# Altium footprint library ESCLib1.PcbLib: 34 footprints (part 1 of 3)
Each footprint in its own frame and in the unit in brackets; x right, y up, seen from the top. Pads: shape width x height; smd on the part's side, far side on the other; paste and mask are expansions set on the pad; w line width, h text height; cw(c..) or ccw(c..) is an arc to the next point about the centre after c.
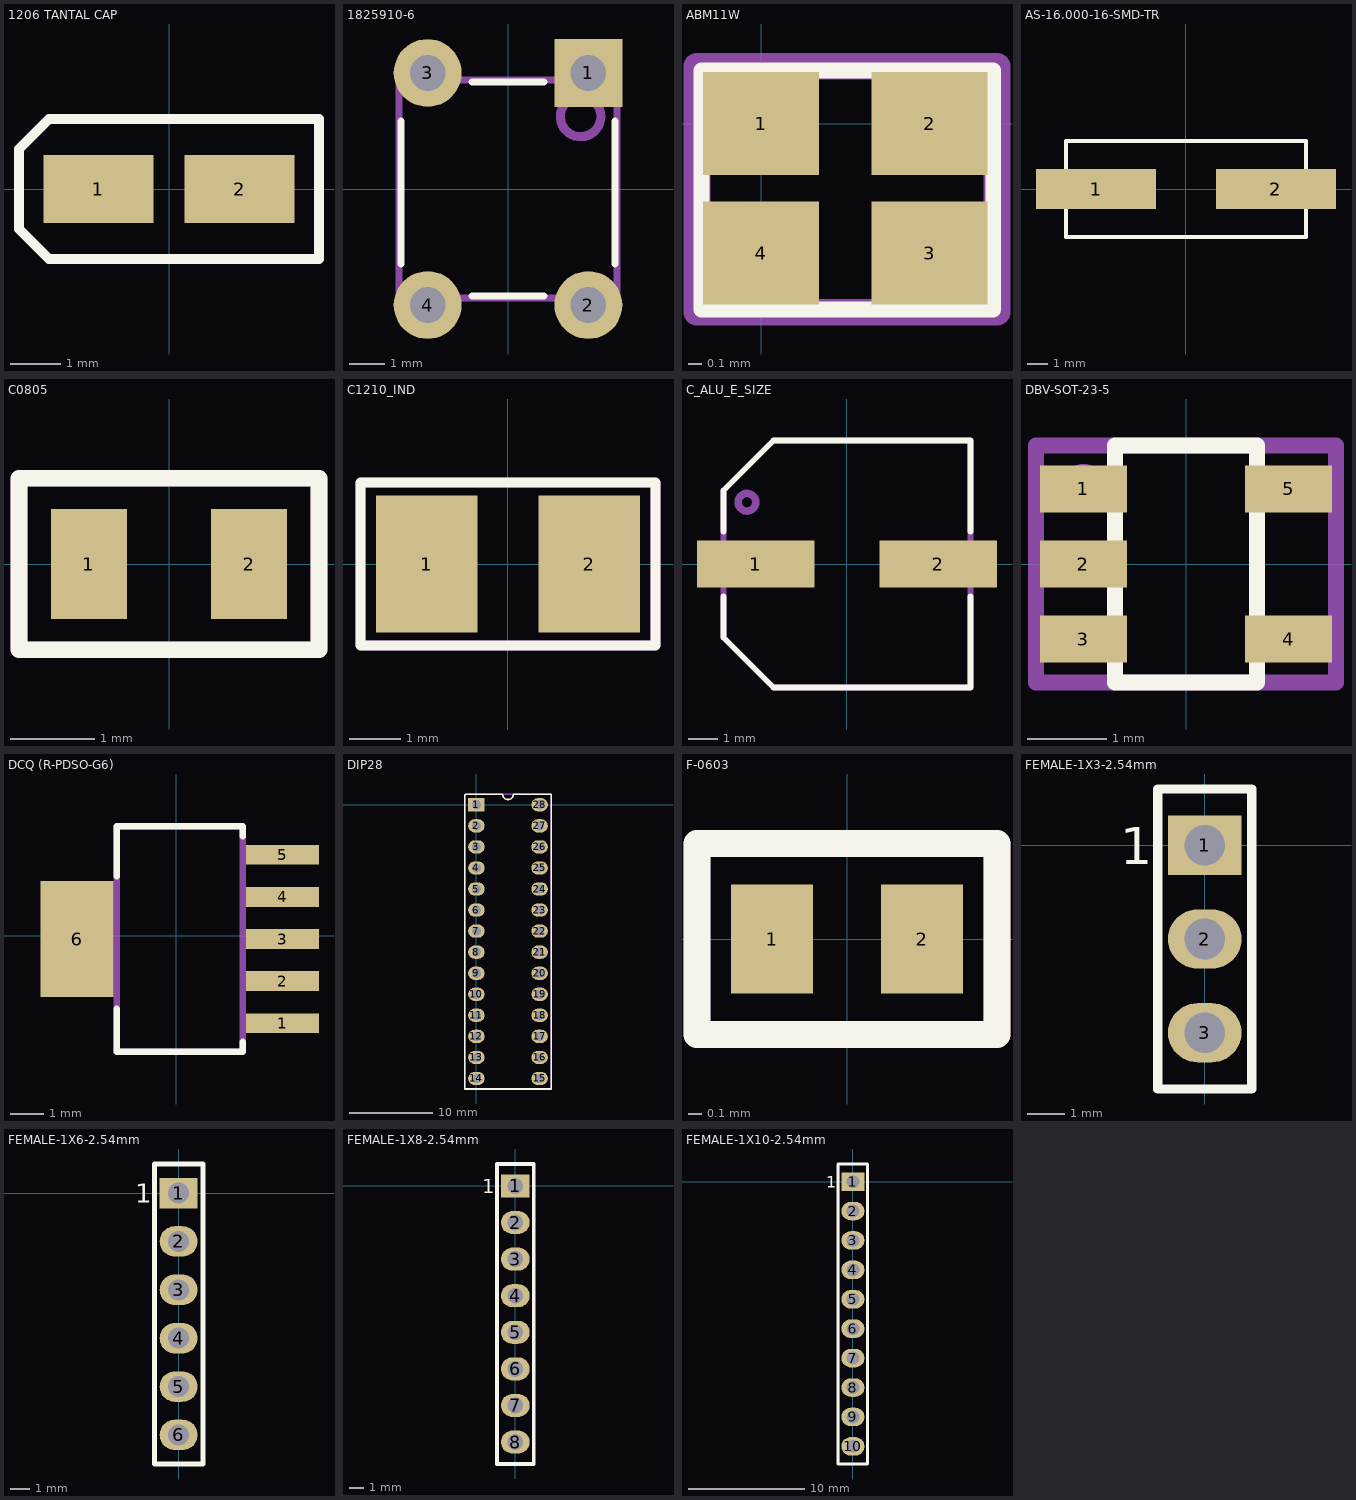
[diagram p0: the footprints below, top view; thin cyan lines are the x and y axes]

## 28_DIP_7.62mm_SOCKET [mm]
3D body "DIP28-SOCKET.stp": height 4.2, standoff -3.17, extent -1.316,-34.357 8.784,1.143

## 1206 TANTAL CAP [mm]
pads (2):
  rect 2.2x1.35 smd: 1(-1.41,0) 2(1.41,0)
Top Overlay:
  lines w0.2: -3,-0.8 -2.4,-1.4 ; -3,-0.8 -3,0.8 ; -3,-0.8 -2.4,-1.4 ; -3,0.8 -2.4,1.4 ; -3,0.8 -2.4,1.4 ; -2.4,-1.4 3,-1.4 3,1.4 -2.4,1.4
Assembly Notes:
  lines w0.2: -3,-0.8 -3,0.8 -2.4,1.4 3,1.4 3,-1.4 -2.3,-1.4 -2.4,-1.4 -3,-0.8
  text "'.Designator'" at -2.6,-0.267 h1
3D body "2012 TANTAL KEMET.step": height 1.82, standoff 0.01, extent -1.7,-0.9 1.7,0.9

## 1825910-6 [mm]
pads (4):
  rect 1.9x1.9 hole 1: 1(2.25,3.25)
  round 1.9 hole 1: 2(2.25,-3.25) 3(-2.25,3.25) 4(-2.25,-3.25)
Top Overlay:
  lines w0.2: -3,-2.1 -3,1.9 ; -1,-3 1,-3 ; -1,3 1,3 ; 3,-2.1 3,1.9
Assembly Notes:
  circle w0.254: c2.032,2.032 r0.568
  lines w0.2: -3.048,-3.048 3.048,-3.048 3.048,3.048 -3.048,3.048 -3.048,-3.048
3D body "RESET_BUTTON.STEP": height 5, standoff -3.51, extent -2.995,-3.9 2.995,3.899

## ABM11W [mm]
pads (4):
  rect 0.875x0.775 smd mask+0.02: 1(0,0) 2(1.27,0) 3(1.27,-0.975) 4(0,-0.975)
Top Overlay:
  lines w0.12: -0.45,-1.4 -0.45,0.4 1.75,0.4 1.75,-1.4 -0.45,-1.4
Assembly Notes:
  circle w0.254: c0,0 r0.18
  lines w0.2: -0.483,-1.422 -0.483,0.432 1.778,0.432 1.778,-1.422 -0.483,-1.422
  text "'.Designator'" at -0.203,-0.988 h1
3D body "ABM11W.STEP": height 0.55, standoff 0.05, extent -0.381,-1.308 1.619,0.292

## AS-16.000-16-SMD-TR [mm]
pads (2):
  rect 6x2 smd: 1(-4.5,0) 2(4.5,0)
Top Overlay:
  lines w0.2: -6,-2.4 -6,2.4 6,2.4 6,-2.4 -6,-2.4
Assembly Notes:
  lines w0.2: -6,-2.4 -6,2.4 6,2.4 6,-2.4 -6,-2.4
  text "'.Designator'" at -5.7,-0.267 h1
3D body "HC-49S.step": height 4.3, standoff 0, extent -6.4,-2.415 6.4,2.415

## C0805 [mm]
pads (2):
  rect 0.9x1.3 smd: 1(-0.95,0) 2(0.95,0)
Top Overlay:
  lines w0.2: -1.778,-1.016 -1.778,1.016 1.778,1.016 1.778,-1.016 -1.778,-1.016
Assembly Notes:
  lines w0.2: -1.778,-1.016 -1.778,1.016 1.778,1.016 1.778,-1.016 -1.778,-1.016
  text "'.Designator'" at -1.524,-0.429 h1
3D body "C0805A.STEP": height 0.7, standoff 0.1, extent -1,-0.625 1,0.625

## C1210_IND [mm]
pads (2):
  rect 2x2.7 smd: 1(-1.6,0) 2(1.6,0)
Top Overlay:
  lines w0.2: -2.9,-1.6 -2.9,1.6 2.9,1.6 2.9,-1.6 -2.9,-1.6
Assembly Notes:
  lines w0.2: -2.9,-1.6 -2.9,1.6 2.9,1.6 2.9,-1.6 -2.9,-1.6
  text "'.Designator'" at -0.38,-0.013 h0.5
3D body: height 2.7, standoff 0, extent -1.675,-1.26 -0.975,1.25
3D body: height 2.7, standoff 0, extent 0.825,-1.242 1.525,1.267
3D body: height 2.6, standoff 0.1, extent -0.975,-1.2 0.825,1.225

## C_ALU_E_SIZE [mm]
pads (2):
  rect 4x1.6 smd: 1(-3.1,0) 2(3.1,0)
Top Overlay:
  lines w0.2: -4.2,-1.1 -4.2,-2.5 -2.5,-4.2 4.2,-4.2 4.2,-1.1 ; -4.2,1.1 -4.2,2.5 -2.5,4.2 4.2,4.2 4.2,1.1
Assembly Notes:
  circle w0.254: c-3.4,2.1 r0.3
  lines w0.2: -4.2,-2.5 -4.2,2.5 -2.5,4.2 4.2,4.2 4.2,-4.2 -2.5,-4.2 -4.2,-2.5
  text "'.Designator'" at -0.58,-0.113 h0.8
3D body "C_ALU_E_SIZE.step": height 6.22, standoff 0.01, extent -4.5,-4.15 4.5,4.15

## DBV-SOT-23-5 [mm]
pads (5):
  rect 1.1x0.6 smd: 1(-1.3,0.95) 2(-1.3,0) 3(-1.3,-0.95) 4(1.3,-0.95) 5(1.3,0.95)
Top Overlay:
  lines w0.2: -0.9,-1.5 0.9,-1.5 0.9,1.5 -0.9,1.5 -0.9,-1.5
Assembly Notes:
  circle w0.254: c-1.3,1 r0.141
  lines w0.2: -1.9,-1.5 -1.9,1.5 1.9,1.5 1.9,-1.5 -1.9,-1.5
  text "'.Designator'" at -1.346,-0.413 h1
3D body "DBV-SOT23.STEP": height 1.45, standoff 0, extent -1.4,-1.45 1.4,1.45

## DCQ (R-PDSO-G6) [mm]
pads (6):
  rect 2.2x0.6 smd: 1(3.2,-2.64) 2(3.2,-1.37) 3(3.2,-0.1) 4(3.2,1.17) 5(3.2,2.44)
  rect 2.2x3.5 smd: 6(-3,-0.1)
Top Overlay:
  lines w0.2: -1.8,-2.2 -1.8,-3.5 2,-3.5 2,-3.2 ; -1.8,1.8 -1.8,3.3 2,3.3 2,3
Assembly Notes:
  lines w0.2: -1.8,-3.5 2,-3.5 2,3.3 -1.8,3.3 -1.8,-3.5
  text "'.Designator'" at -0.019,0.273 h0.76
3D body "3V3_LDO_TI.STEP": height 1.8, standoff 0, extent -3.43,-3.35 3.63,3.15

## DIP28 [mm]
pads (28):
  rect 2x1.6 hole 1.1: 1(0,0)
  oval 2x1.6 hole 1.1: 2(0,-2.54) 3(0,-5.08) 4(0,-7.62) 5(0,-10.16) 6(0,-12.7) 7(0,-15.24) 8(0,-17.78) 9(0,-20.32) 10(0,-22.86) 11(0,-25.4) 12(0,-27.94) 13(0,-30.48) 14(0,-33.02) 15(7.62,-33.02) 16(7.62,-30.48) 17(7.62,-27.94) 18(7.62,-25.4) 19(7.62,-22.86) 20(7.62,-20.32) 21(7.62,-17.78) 22(7.62,-15.24) 23(7.62,-12.7) 24(7.62,-10.16) 25(7.62,-7.62) 26(7.62,-5.08) 27(7.62,-2.54) 28(7.62,0)
Top Overlay:
  lines w0.2: -1.397,-34.29 9.017,-34.29 9.017,1.27 4.445,1.27 cw(c3.81,1.27) 3.175,1.27 -1.27,1.27 -1.397,1.143 -1.397,-34.29
Assembly Notes:
  circle w0.254: c0,0 r0.381
  lines w0.2: -1.397,-34.29 9.017,-34.29 9.017,1.27 -1.27,1.27 -1.397,1.143 -1.397,-34.29
  text "'.Designator'" at 4.112,-17.907 h1
3D body "ATMEGA328-PU-DIP28.STEP": height 8.07, standoff 0.07, extent -0.14,-33.718 7.76,0.953

## F-0603 [mm]
pads (2):
  rect 0.6x0.8 smd: 1(-0.55,0) 2(0.55,0)
Top Overlay:
  lines w0.2: -1.1,-0.7 -1.1,0.7 1.1,0.7 1.1,-0.7 -1.1,-0.7
Assembly Notes:
  lines w0.2: -1.1,-0.7 -1.1,0.7 1.1,0.7 1.1,-0.7 -1.1,-0.7
  text "'.Designator'" at -0.95,-0.317 h0.7
3D body "R0603.step": height 0.46, standoff 0.01, extent -0.8,-0.4 0.8,0.4

## FEMALE-1X3-2.54mm [mm]
pads (3):
  rect 2x1.6 hole 1.1: 1(0,0)
  oval 2x1.6 hole 1.1: 2(0,-2.54) 3(0,-5.08)
Top Overlay:
  lines w0.254: -1.27,-6.604 1.27,-6.604 1.27,1.524 -1.27,1.524 -1.27,-6.604
  text "1" at -2.286,-0.508 h1
Assembly Notes:
  circle w0.254: c0,0 r0.508
  lines w0.2: -1.27,-6.604 1.27,-6.604 1.27,1.524 -1.27,1.524 -1.27,-6.604
  text "'.Designator'" at 0.429,-3.302 h1
3D body "HDR_1x3_2.54MM.STEP": height 9.21, standoff -3.49, extent -1.27,-6.35 1.27,1.27

## FEMALE-1X6-2.54mm [mm]
pads (6):
  rect 2x1.6 hole 1.1: 1(0,0)
  oval 2x1.6 hole 1.1: 2(0,-2.54) 3(0,-5.08) 4(0,-7.62) 5(0,-10.16) 6(0,-12.7)
Top Overlay:
  lines w0.254: -1.27,-14.224 1.27,-14.224 1.27,1.524 -1.27,1.524 -1.27,-14.224
  text "1" at -2.286,-0.508 h1
Assembly Notes:
  circle w0.254: c0,0 r0.508
  lines w0.2: -1.27,-14.224 1.27,-14.224 1.27,1.524 -1.27,1.524 -1.27,-14.224
  text "'.Designator'" at 0.302,-7.747 h1
3D body "FEMALE-1X6-2,54mm.STEP": height 8.8, standoff -2.9, extent -1.27,-14.22 1.27,1.52

## FEMALE-1X8-2.54mm [mm]
pads (8):
  rect 2x1.6 hole 1.1: 1(0,0)
  oval 2x1.6 hole 1.1: 2(0,-2.54) 3(0,-5.08) 4(0,-7.62) 5(0,-10.16) 6(0,-12.7) 7(0,-15.24) 8(0,-17.78)
Top Overlay:
  lines w0.254: -1.27,-19.304 1.27,-19.304 1.27,1.524 -1.27,1.524 -1.27,-19.304
  text "1" at -2.286,-0.508 h1
Assembly Notes:
  circle w0.254: c0,0 r0.539
  lines w0.2: -1.27,-19.304 1.27,-19.304 1.27,1.524 -1.27,1.524 -1.27,-19.304
  text "'.Designator'" at 0.429,-11.049 h1
3D body "FEMALE-1X8-2,54mm.STEP": height 8.8, standoff -2.9, extent -1.27,-19.3 1.27,1.52

## FEMALE-1X10-2.54mm [mm]
pads (10):
  rect 2x1.6 hole 1.1: 1(0,0)
  oval 2x1.6 hole 1.1: 2(0,-2.54) 3(0,-5.08) 4(0,-7.62) 5(0,-10.16) 6(0,-12.7) 7(0,-15.24) 8(0,-17.78) 9(0,-20.32) 10(0,-22.86)
Top Overlay:
  lines w0.254: -1.27,-24.384 1.27,-24.384 1.27,1.524 -1.27,1.524 -1.27,-24.384
  text "1" at -2.286,-0.508 h1
Assembly Notes:
  circle w0.254: c0,0 r0.524
  lines w0.2: -1.27,-24.384 1.27,-24.384 1.27,1.524 -1.27,1.524 -1.27,-24.384
  text "'.Designator'" at 0.429,-13.335 h1
3D body "FEMALE-1X10-2,54mm.STEP": height 8.9, standoff -2.8, extent -1.27,-24.38 1.27,1.52